# Altium footprint library FootPrintLib_2.PcbLib: 173 footprints (part 10 of 11)
Each footprint in its own frame and in the unit in brackets; x right, y up, seen from the top. Pads: shape width x height; smd on the part's side, far side on the other; paste and mask are expansions set on the pad; w line width, h text height; cw(c..) or ccw(c..) is an arc to the next point about the centre after c.
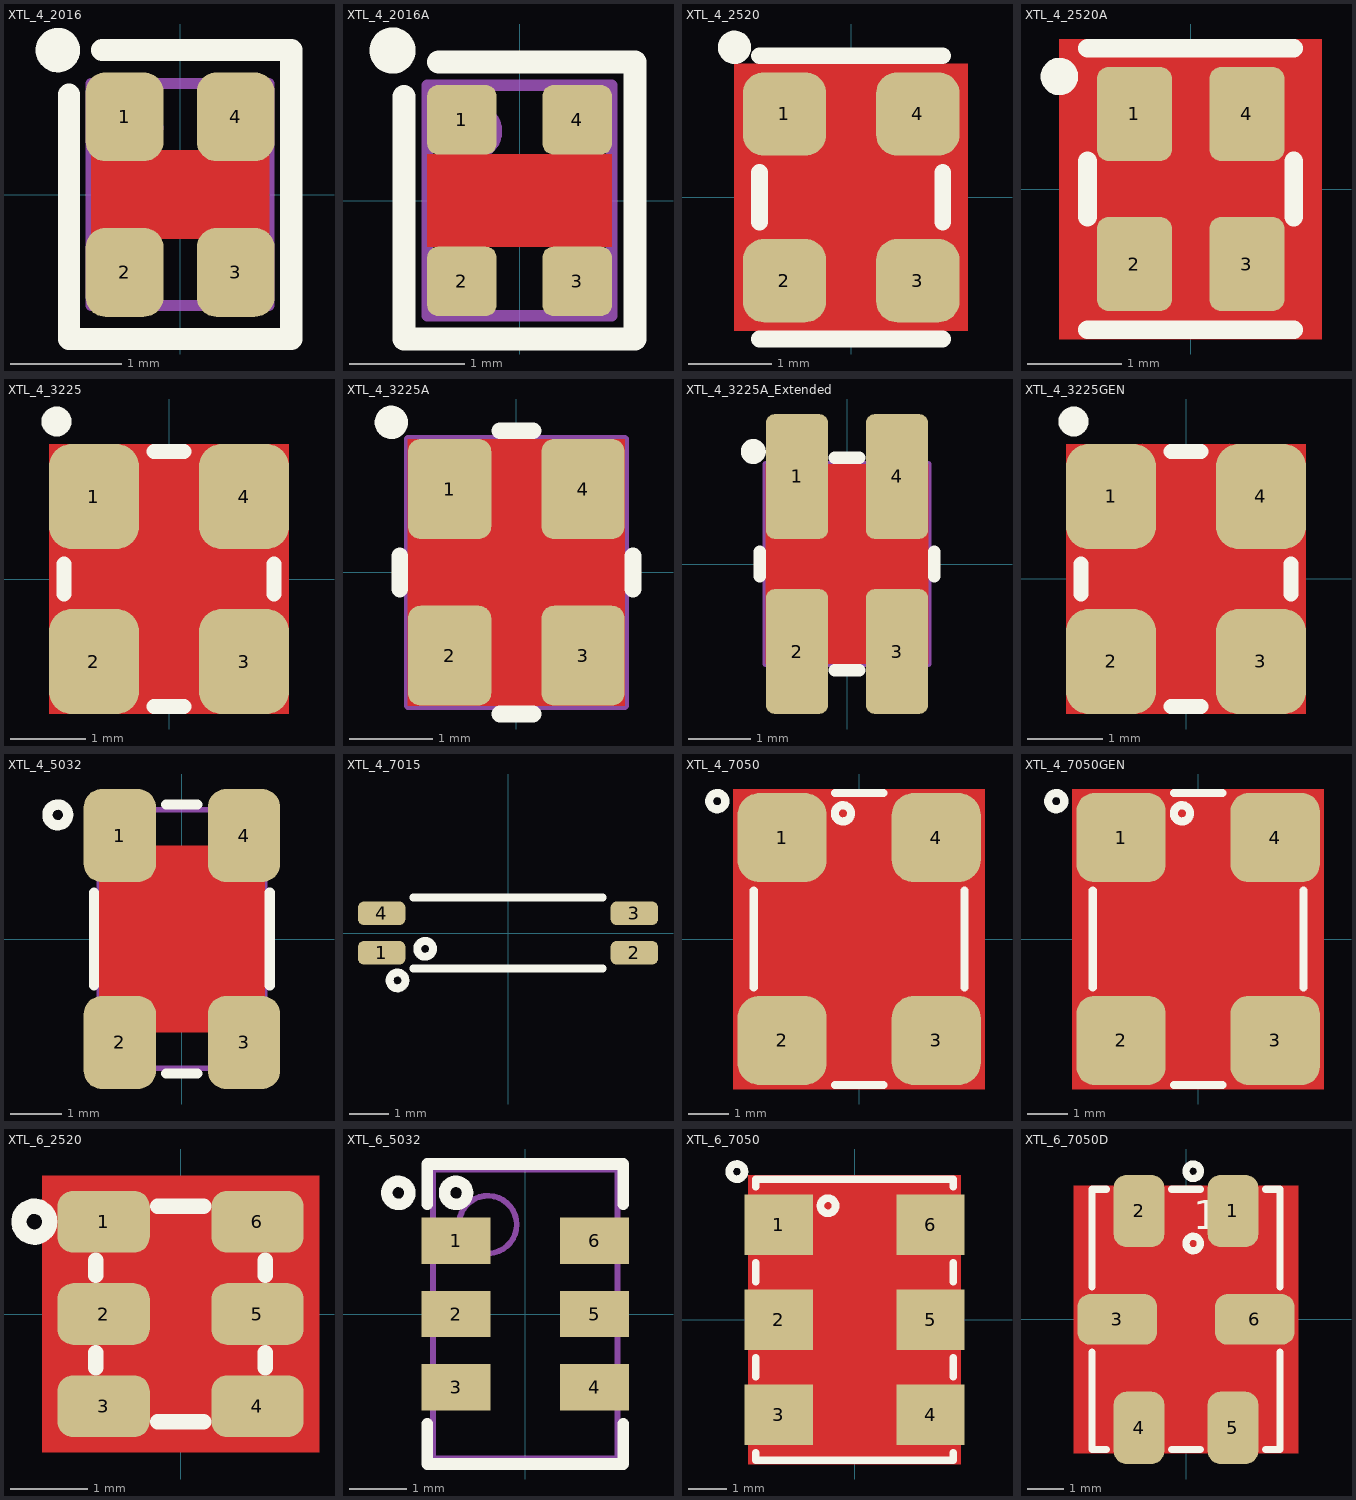
[diagram p9: the footprints below, top view; thin cyan lines are the x and y axes]

## XTL_4_2016 [mm] "ABM11"
height 0.7
pads (4):
  rrect50% 0.7x0.8 smd mask+0.075: 1(-0.5,0.7) 2(-0.5,-0.7) 3(0.5,-0.7) 4(0.5,0.7)
Top Layer:
  pour cut-out: -0.8,0.4 -0.8,-0.4 0.8,-0.4 0.8,0.4
Top Overlay:
  circle w0.2: c-1.1,1.3 r0.1
  lines w0.2: -1,0.9 -1,-1.3 1,-1.3 1,1.3 -0.7,1.3
Mechanical 13:
  circle w0.1: c-0.4,0.6 r0.2
  lines w0.1: -0.8,-1 0.8,-1 0.8,1 -0.8,1 -0.8,-1
3D body "XTL_4_200X160-XRCGB27M000F2P00R0.step": height 0.65, standoff 0, extent -0.8,-1 0.8,1

## XTL_4_2016A [mm] "ABM11"
height 0.7
pads (4):
  rrect30% 0.6x0.6 smd mask+0.075: 1(-0.5,0.7) 2(-0.5,-0.7) 3(0.5,-0.7) 4(0.5,0.7)
Top Layer:
  pour cut-out: -0.8,0.4 -0.8,-0.4 0.8,-0.4 0.8,0.4
Top Overlay:
  circle w0.2: c-1.1,1.3 r0.1
  lines w0.2: -1,0.9 -1,-1.2 1,-1.2 1,1.2 -0.7,1.2
Mechanical 13:
  circle w0.1: c-0.4,0.6 r0.2
  lines w0.1: -0.8,-1 -0.8,1 0.8,1 0.8,-1 -0.8,-1
3D body "XTL_4_200X160-XRCGB27M000F2P00R0.step": height 0.65, standoff 0, extent -0.8,-1 0.8,1

## XTL_4_2520 [mm] "CRYSTAL OSCILATOR 2.5X2.0mm, ABM10, CDFN-4"
pads (4):
  rrect50% 1x1 smd: 1(-0.8,1) 2(-0.8,-1) 3(0.8,-1) 4(0.8,1)
Top Layer:
  pour cut-out: -1.4,1.6 -1.4,-1.6 1.4,-1.6 1.4,1.6
Top Overlay:
  circle w0.2: c-1.4,1.8 r0.1
  lines w0.2: -1.1,-1.7 1.1,-1.7 ; -1.1,-0.3 -1.1,0.3 ; -1.1,1.7 1.1,1.7 ; 1.1,-0.3 1.1,0.3
Mechanical 13:
  circle w0.1: c-0.2,0.8 r0.3
  lines w0.1: -1,-1.3 1,-1.3 1,1.3 -1,1.3 -1,-1.3
3D body "User Library-SM2520-4.step": height 0.8, standoff -0.03, extent -1,-1.25 1,1.25

## XTL_4_2520A [mm] "CRYSTAL OSCILATOR 2.5X2.0mm, ABM10, CDFN-4"
pads (4):
  rrect30% 0.8x1 smd: 1(-0.6,0.8) 2(-0.6,-0.8) 3(0.6,-0.8) 4(0.6,0.8)
Top Layer:
  pour cut-out: -1.4,1.6 -1.4,-1.6 1.4,-1.6 1.4,1.6
Top Overlay:
  circle w0.2: c-1.4,1.2 r0.1
  lines w0.2: -1.1,-1.5 1.1,-1.5 ; -1.1,-0.3 -1.1,0.3 ; -1.1,1.5 1.1,1.5 ; 1.1,-0.3 1.1,0.3
Mechanical 13:
  circle w0.1: c-0.2,0.8 r0.3
  lines w0.1: -1,-1.3 1,-1.3 1,1.3 -1,1.3 -1,-1.3
3D body "User Library-SM2520-4.step": height 0.8, standoff -0.03, extent -1,-1.25 1,1.25

## XTL_4_3225 [mm] "CRYSTAL OSCILATOR 3.2X2.5mm, ABM8, CDFN-4"
pads (4):
  rrect50% 1.2x1.4 smd: 1(-1,1.1) 2(-1,-1.1) 3(1,-1.1) 4(1,1.1)
Top Layer:
  pour cut-out: -1.6,1.8 -1.6,-1.8 1.6,-1.8 1.6,1.8
Top Overlay:
  circle w0.2: c-1.5,2.1 r0.1
  lines w0.2: -1.4,-0.2 -1.4,0.2 ; -0.2,-1.7 0.2,-1.7 ; -0.2,1.7 0.2,1.7 ; 1.4,-0.2 1.4,0.2
Mechanical 13:
  circle w0.1: c-0.8,1.1 r0.3
  lines w0.1: -1.3,-1.6 -1.3,1.6 1.3,1.6 1.3,-1.6 -1.3,-1.6
3D body "User Library-3225-1.step": height 0.61, standoff 0, extent -1.25,-1.6 1.25,1.6

## XTL_4_3225A [mm] "CRYSTAL OSCILATOR 3.2X2.5mm, ABM8, CDFN-4"
pads (4):
  rrect30% 1x1.2 smd: 1(-0.8,1) 2(-0.8,-1) 3(0.8,-1) 4(0.8,1)
Top Layer:
  pour cut-out: -1.3,1.6 -1.3,-1.6 1.3,-1.6 1.3,1.6
Top Overlay:
  circle w0.2: c-1.5,1.8 r0.1
  lines w0.2: -1.4,-0.2 -1.4,0.2 ; -0.2,-1.7 0.2,-1.7 ; -0.2,1.7 0.2,1.7 ; 1.4,-0.2 1.4,0.2
Mechanical 13:
  circle w0.1: c-0.8,1.1 r0.3
  lines w0.1: -1.3,-1.6 -1.3,1.6 1.3,1.6 1.3,-1.6 -1.3,-1.6
3D body "User Library-3225-1.step": height 0.61, standoff 0, extent -1.25,-1.6 1.25,1.6

## XTL_4_3225A_Extended [mm] "CRYSTAL OSCILATOR 3.2X2.5mm, ABM8, CDFN-4"
pads (4):
  rrect30% 1x2 smd: 1(-0.8,1.4) 2(-0.8,-1.4) 3(0.8,-1.4) 4(0.8,1.4)
Top Layer:
  pour cut-out: -1.3,1.6 -1.3,-1.6 1.3,-1.6 1.3,1.6
Top Overlay:
  circle w0.2: c-1.5,1.8 r0.1
  lines w0.2: -1.4,-0.2 -1.4,0.2 ; -0.2,-1.7 0.2,-1.7 ; -0.2,1.7 0.2,1.7 ; 1.4,-0.2 1.4,0.2
Mechanical 13:
  circle w0.1: c-0.8,1.1 r0.3
  lines w0.1: -1.3,-1.6 1.3,-1.6 1.3,1.6 -1.3,1.6 -1.3,-1.6
3D body "User Library-3225-1.step": height 0.61, standoff 0, extent -1.25,-1.6 1.25,1.6

## XTL_4_3225GEN [mm] "CRYSTAL OSCILATOR 1.2X1.0mm to 3.2X2.5mm"
pads (4):
  rrect50% 1.2x1.4 smd: 1(-1,1.1) 2(-1,-1.1) 3(1,-1.1) 4(1,1.1)
Top Layer:
  region: -0.15,0.175 -0.225,0.1 -1.125,0.1 -1.6,0.575 -1.6,1.55 -1.35,1.8 -0.575,1.8 -0.15,1.375
  region: 0.15,0.175 0.225,0.1 1.125,0.1 1.6,0.575 1.6,1.55 1.35,1.8 0.575,1.8 0.15,1.375
  region: 0.15,-0.175 0.225,-0.1 1.125,-0.1 1.6,-0.575 1.6,-1.55 1.35,-1.8 0.575,-1.8 0.15,-1.375
  region: -0.15,-0.175 -0.225,-0.1 -1.125,-0.1 -1.6,-0.575 -1.6,-1.55 -1.35,-1.8 -0.575,-1.8 -0.15,-1.375
  pour cut-out: -1.6,1.8 -1.6,-1.8 1.6,-1.8 1.6,1.8
Top Overlay:
  circle w0.2: c-1.5,2.1 r0.1
  lines w0.2: -1.4,-0.2 -1.4,0.2 ; -0.2,-1.7 0.2,-1.7 ; -0.2,1.7 0.2,1.7 ; 1.4,-0.2 1.4,0.2
Top Solder:
  region: -0.075,1.375 -0.325,1.625 -1.525,1.625 -1.525,0.375 -1.175,0.025 -0.2,0.025 -0.075,0.15
  region: 0.075,1.375 0.325,1.625 1.525,1.625 1.525,0.375 1.175,0.025 0.2,0.025 0.075,0.15
  region: 0.075,-1.375 0.325,-1.625 1.525,-1.625 1.525,-0.375 1.175,-0.025 0.2,-0.025 0.075,-0.15
  region: -0.075,-1.375 -0.325,-1.625 -1.525,-1.625 -1.525,-0.375 -1.175,-0.025 -0.2,-0.025 -0.075,-0.15
Mechanical 13:
  circle w0.1: c-0.8,1.1 r0.3
  lines w0.1: -1.3,-1.6 1.3,-1.6 1.3,1.6 -1.3,1.6 -1.3,-1.6
3D body "User Library-3225-1.step": height 0.61, standoff 0, extent -1.25,-1.6 1.25,1.6

## XTL_4_5032 [mm] "ASFLMB, CDFN-4"
pads (4):
  rrect50% 1.4x1.8 smd: 1(-1.2,2) 2(-1.2,-2) 3(1.2,-2) 4(1.2,2)
Top Layer:
  pour cut-out: -1.6,1.8 -1.6,-1.8 1.6,-1.8 1.6,1.8
Top Overlay:
  circle w0.2: c-2.4,2.4 r0.2
  lines w0.2: -1.7,-0.9 -1.7,0.9 ; -0.3,-2.6 0.3,-2.6 ; -0.3,2.6 0.3,2.6 ; 1.7,-0.9 1.7,0.9
Mechanical 13:
  circle w0.1: c-1,1.9 r0.3
  lines w0.1: -1.6,-2.5 -1.6,2.5 1.6,2.5 1.6,-2.5 -1.6,-2.5
3D body "XTL_4_500X320-CFPT-9301.step": height 1.55, standoff 0, extent -1.6,-2.5 1.6,2.5

## XTL_4_7015 [mm] "CRYSTAL OSCILATOR 7.0X1.5mm"
pads (4):
  rrect50% 1.2x0.6 smd: 1(-3.2,-0.5) 2(3.2,-0.5) 3(3.2,0.5) 4(-3.2,0.5)
Top Overlay:
  circle w0.2: c-2.1,-0.4 r0.2
  circle w0.2: c-2.8,-1.2 r0.2
  lines w0.2: -2.4,-0.9 2.4,-0.9 ; -2.4,0.9 2.4,0.9
3D body: height 1.4, standoff 0, extent -3.5,-0.8 3.5,0.8

## XTL_4_7050 [mm] "DFN-4, 7x5mm"
pads (4):
  rrect50% 2.2x2.2 smd: 1(-1.9,2.5) 2(-1.9,-2.5) 3(1.9,-2.5) 4(1.9,2.5)
Top Layer:
  pour cut-out: -3.1,3.7 -3.1,-3.7 3.1,-3.7 3.1,3.7
Top Overlay:
  circle w0.2: c-0.4,3.1 r0.2
  circle w0.2: c-3.5,3.4 r0.2
  lines w0.2: -2.6,-1.2 -2.6,1.2 ; -0.6,-3.6 0.6,-3.6 ; -0.6,3.6 0.6,3.6 ; 2.6,-1.2 2.6,1.2
Mechanical 13:
  circle w0.1: c-1.9,2.9 r0.3
  lines w0.1: -2.5,-3.5 2.5,-3.5 2.5,3.5 -2.5,3.5 -2.5,-3.5
3D body "User Library-CTS-CB3_7x5.step": height 1.71, standoff 0, extent -2.5,-3.5 2.5,3.5

## XTL_4_7050GEN [mm] "2.5X2 TO 7X5"
pads (4):
  rrect40% 2.2x2.2 smd: 1(-1.9,2.5) 2(-1.9,-2.5) 3(1.9,-2.5) 4(1.9,2.5)
Top Layer:
  pour cut-out: -3.1,3.7 -3.1,-3.7 3.1,-3.7 3.1,3.7
  region: -0.8,3.6 -0.2,1.1 -0.2,0.3 -1.1,0.3 -2.1,1.4 -2.1,3.6
  region: 0.8,3.6 0.2,1.1 0.2,0.3 1.1,0.3 2.1,1.4 2.1,3.6
  region: 0.8,-3.6 0.2,-1.1 0.2,-0.3 1.1,-0.3 2.1,-1.4 2.1,-3.6
  region: -0.8,-3.6 -0.2,-1.1 -0.2,-0.3 -1.1,-0.3 -2.1,-1.4 -2.1,-3.6
Top Overlay:
  circle w0.2: c-3.5,3.4 r0.2
  circle w0.2: c-0.4,3.1 r0.2
  lines w0.2: -2.6,-1.2 -2.6,1.2 ; -0.6,-3.6 0.6,-3.6 ; -0.6,3.6 0.6,3.6 ; 2.6,-1.2 2.6,1.2
Top Solder:
  region: -0.724,3.6 -0.1,1 -0.1,0.2 -1.082,0.2 -2.1,1.32 -2.1,3.6
  region: 0.724,3.6 0.1,1 0.1,0.2 1.082,0.2 2.1,1.32 2.1,3.6
  region: 0.724,-3.6 0.1,-1 0.1,-0.2 1.082,-0.2 2.1,-1.32 2.1,-3.6
  region: -0.724,-3.6 -0.1,-1 -0.1,-0.2 -1.082,-0.2 -2.1,-1.32 -2.1,-3.6
Mechanical 13:
  circle w0.1: c-1.9,2.9 r0.3
  lines w0.1: -2.5,-3.5 -2.5,3.5 2.5,3.5 2.5,-3.5 -2.5,-3.5
3D body "User Library-CTS-CB3_7x5.step": height 1.71, standoff 0, extent -2.5,-3.5 2.5,3.5

## XTL_6_2520 [mm] "KT2520, KT2520, SM2520 2.5X2.0mm"
pads (6):
  rrect50% 1.2x0.8 smd: 1(-1,1.2) 2(-1,0) 3(-1,-1.2) 4(1,-1.2) 5(1,0) 6(1,1.2)
Top Layer:
  pour cut-out: -1.8,1.8 -1.8,-1.8 1.8,-1.8 1.8,1.8
Top Overlay:
  circle w0.2: c-1.9,1.2 r0.2
  lines w0.2: -1.1,-0.7 -1.1,-0.5 ; -1.1,0.5 -1.1,0.7 ; -0.3,-1.4 0.3,-1.4 ; -0.3,1.4 0.3,1.4 ; 1.1,-0.7 1.1,-0.5 ; 1.1,0.5 1.1,0.7
Mechanical 13:
  circle w0.1: c-0.7,0.9 r0.1
  lines w0.1: -1,-1.2 -1,1.2 1,1.2 1,-1.2 -1,-1.2
3D body "User Library-Osc KC2520.STEP": height 0.79, standoff 0, extent -1,-1.25 1,1.25

## XTL_6_5032 [mm] "CRYSTAL OSCILATOR 5X3.2mm"
height 0.8
pads (6):
  rect 1.2x0.8 smd: 1(-1.2,1.27) 2(-1.2,0) 3(-1.2,-1.27) 4(1.2,-1.27) 5(1.2,0) 6(1.2,1.27)
Top Overlay:
  circle w0.2: c-1.2,2.1 r0.2
  circle w0.2: c-2.2,2.1 r0.2
  lines w0.2: -1.7,-1.9 -1.7,-2.6 1.7,-2.6 1.7,-1.9 ; -1.7,1.9 -1.7,2.6 1.7,2.6 1.7,1.9
Mechanical 13:
  circle w0.1: c-0.65,1.55 r0.5
  lines w0.1: -1.6,-2.5 -1.6,2.5 1.6,2.5 1.6,-2.5 -1.6,-2.5
3D body: height 0.8, standoff 0, extent -1.6,-2.5 1.6,2.5

## XTL_6_7050 [mm] "Crystal Oscillator 6-Lead, 7X5mm"
pads (6):
  rect 1.8x1.6 smd: 1(-2,2.5) 2(-2,0) 3(-2,-2.5) 4(2,-2.5) 5(2,0) 6(2,2.5)
Top Layer:
  pour cut-out: -2.8,3.8 -2.8,-3.8 2.8,-3.8 2.8,3.8
Top Overlay:
  circle w0.2: c-3.1,3.9 r0.2
  circle w0.2: c-0.7,3 r0.2
  lines w0.2: -2.6,-3.5 -2.6,-3.7 2.6,-3.7 2.6,-3.5 ; -2.6,-1.5 -2.6,-1 ; -2.6,1 -2.6,1.5 ; -2.6,3.5 -2.6,3.7 2.6,3.7 2.6,3.5 ; 2.6,-1.5 2.6,-1 ; 2.6,1 2.6,1.5
Mechanical 13:
  circle w0.1: c-1.55,2.55 r0.5
  lines w0.1: -2.5,-3.5 2.5,-3.5 2.5,3.5 -2.5,3.5 -2.5,-3.5
3D body "XTL254_6_700X500-EG-2121CA.step": height 1.2, standoff 0, extent -2.502,-3.502 2.503,3.502

## XTL_6_7050D [mm] "DSF753SDF-D73312GQ"
pads (6):
  rrect50% 1.4x2 smd: 1(1.3,3) 2(-1.3,3) 4(-1.3,-3) 5(1.3,-3)
  rrect50% 2.2x1.4 smd: 3(-1.9,0) 6(1.9,0)
Top Layer:
  pour cut-out: -3.1,3.7 -3.1,-3.7 3.1,-3.7 3.1,3.7
  region: -1.9,0.3 1.9,0.3 1.9,-0.3 -1.9,-0.3
Top Overlay:
  circle w0.2: c0.2,2.1 r0.2
  circle w0.2: c0.2,4.1 r0.2
  lines w0.2: -2.6,-0.9 -2.6,-3.6 -2.2,-3.6 ; -2.6,0.9 -2.6,3.6 -2.2,3.6 ; -0.4,-3.6 0.4,-3.6 ; -0.4,3.6 0.4,3.6 ; 2.2,-3.6 2.6,-3.6 2.6,-0.9 ; 2.2,3.6 2.6,3.6 2.6,0.9
  text "1" at 0.2,2.5 h0.8
Mechanical 13:
  circle w0.1: c-1.9,2.9 r0.3
  lines w0.1: -2.5,-3.5 2.5,-3.5 2.5,3.5 -2.5,3.5 -2.5,-3.5
3D body: height 1.5, standoff 0.01, extent -2.5,-3.5 2.5,3.5